# EAGLE library part LORA-0200-SMD (library PonLib)
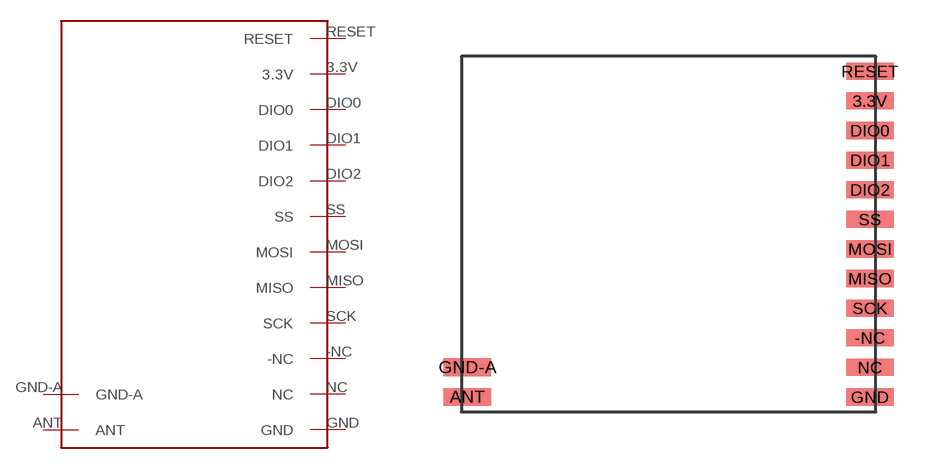
[diagram p28: symbol with the pads of LORA-0200-SMD; footprint LORA-0200-SMD]

Designator prefix -

## LORA-0200-SMD  [LORA-0200-SMD]
3.3V  3.3V
-NC  -NC
ANT  ANT
DIO0  DIO0
DIO1  DIO1
DIO2  DIO2
GND  GND
GND-A  GND-A
MISO  MISO
MOSI  MOSI
NC  NC
RESET  RESET
SCK  SCK
SS  SS

## Footprint LORA-0200-SMD (pad centres in mm)
smd 2.032 x 0.737: 3.3V 8.636,5.08; -NC 8.636,-5.08; DIO0 8.636,3.81; DIO1 8.636,2.54; DIO2 8.636,1.27; GND 8.636,-7.62; MISO 8.636,-2.54; MOSI 8.636,-1.27; NC 8.636,-6.35; RESET 8.636,6.35; SCK 8.636,-3.81; SS 8.636,0
smd 2.032 x 0.762: ANT -8.636,-7.62; GND-A -8.636,-6.35